# Altium footprint library SnapEDApcb.PcbLib: 1 footprints
Each footprint in its own frame and in the unit in brackets; x right, y up, seen from the top. Pads: shape width x height; smd on the part's side, far side on the other; paste and mask are expansions set on the pad; w line width, h text height; cw(c..) or ccw(c..) is an arc to the next point about the centre after c.
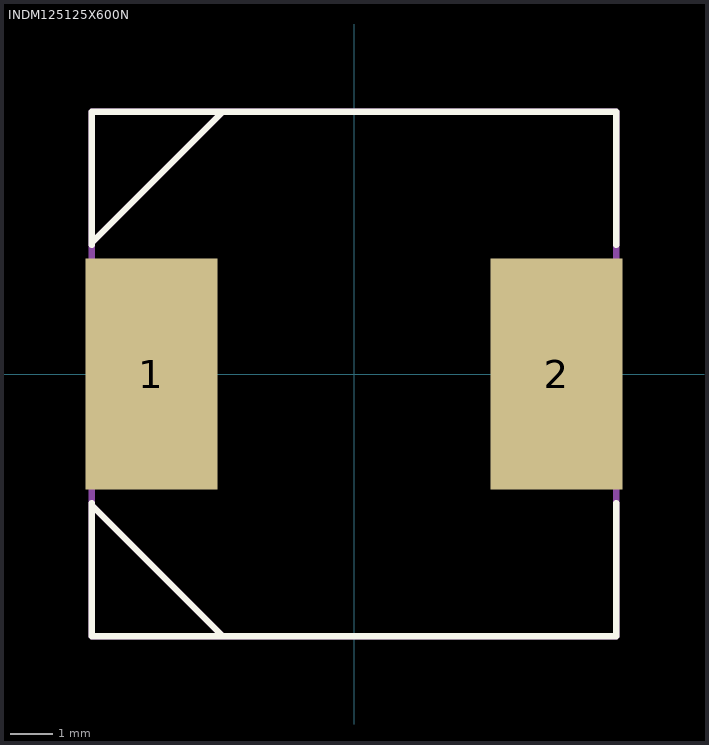
[diagram p0: the footprint, top view; thin cyan lines are the x and y axes]

## INDM125125X600N [mil]
pads (2):
  rect 124x217 smd: 1(-190,0) 2(190,0)
Top Overlay:
  lines w6: -246,-121 -246,-123 ; -246,121 -246,246 246,246 246,121 ; -246,123 -123,246 ; -123,-246 -246,-123 ; 246,-121 246,-246 -246,-246 -246,-123
Mechanical 13:
  lines w6: -246,-123 -123,-246 ; -246,123 -123,246 ; -246,-246 -246,246 246,246 246,-246 -246,-246
3D body "DR125-331-R.STEP": height 236.22, standoff 0, extent -246.06,-246.06 246.07,246.07